# Altium footprint library LV1.PcbLib: 45 footprints (part 1 of 3)
Each footprint in its own frame and in the unit in brackets; x right, y up, seen from the top. Pads: shape width x height; smd on the part's side, far side on the other; paste and mask are expansions set on the pad; w line width, h text height; cw(c..) or ccw(c..) is an arc to the next point about the centre after c.
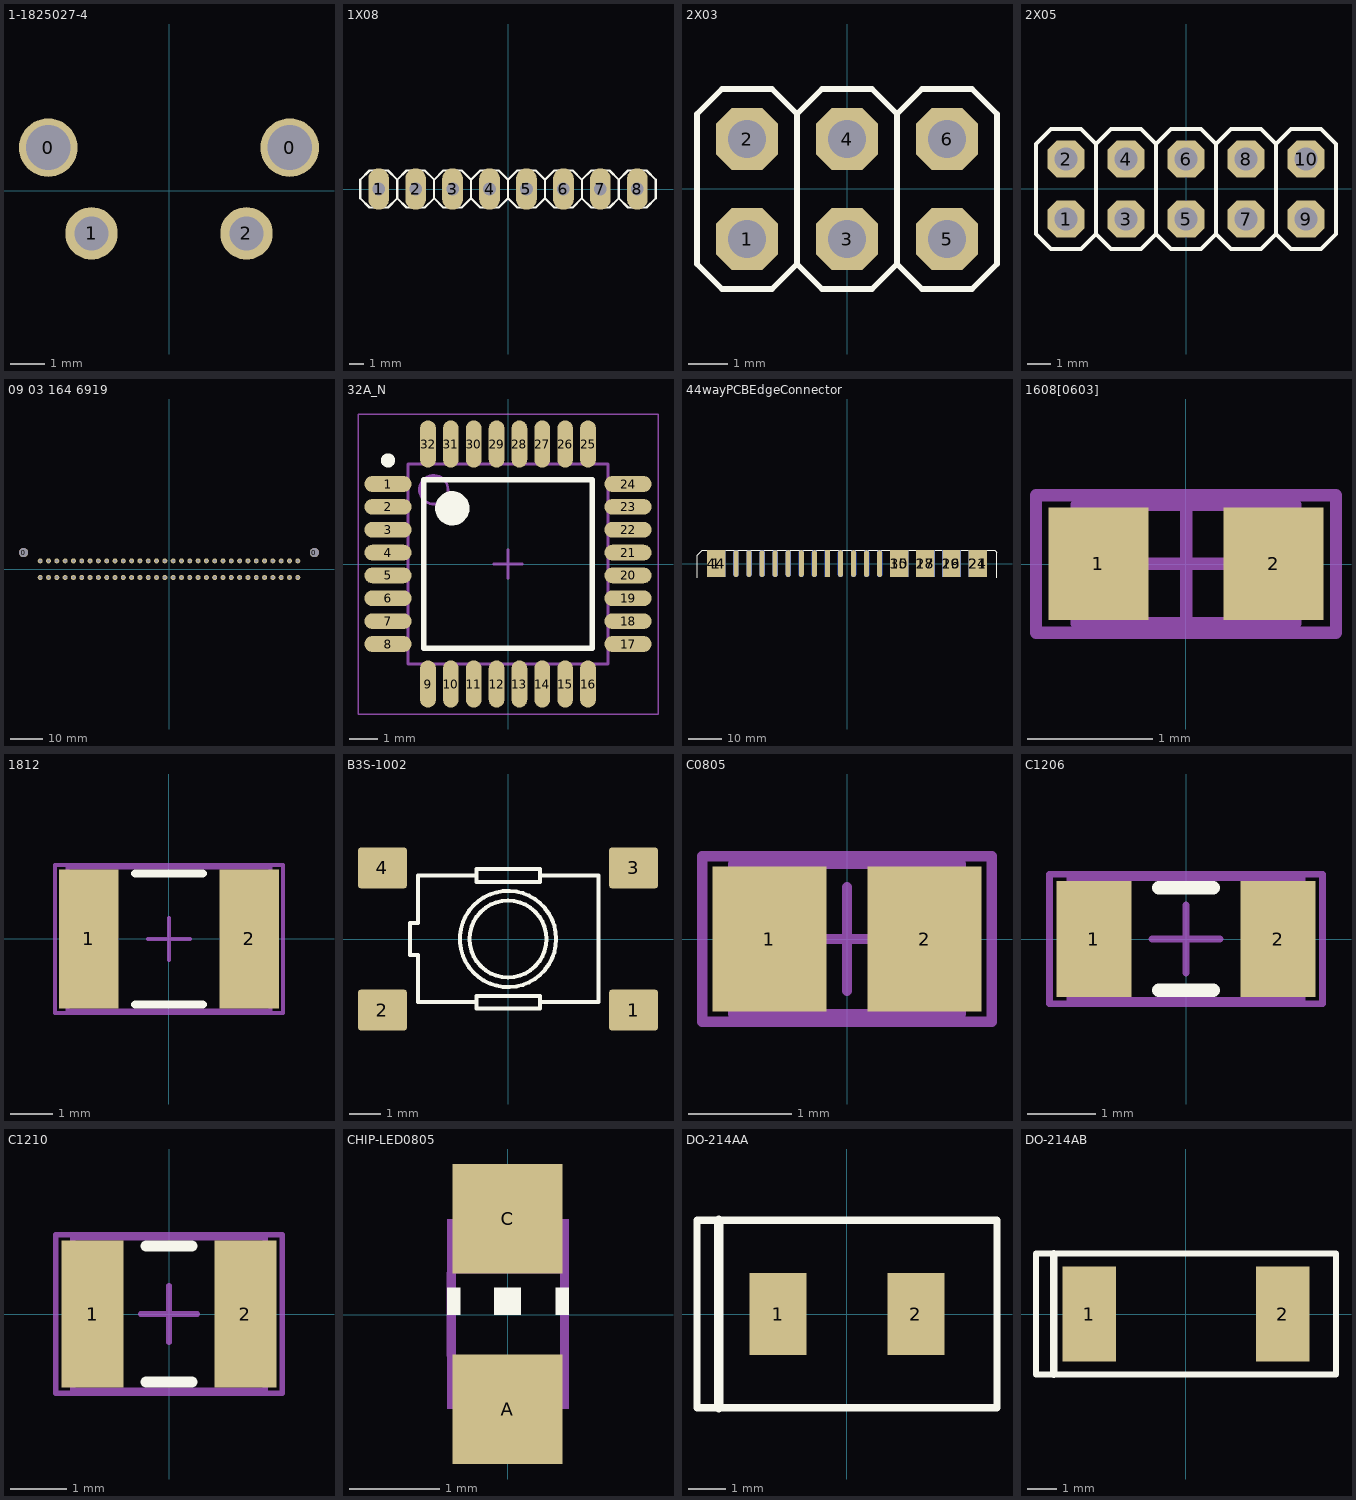
[diagram p0: the footprints below, top view; thin cyan lines are the x and y axes]

## 1-1825027-4 [mm]
pads (4):
  round 1.7 hole 1.3: 0(-3.505,1.245) 0(3.505,1.245)
  round 1.524 hole 0.99: 1(-2.25,-1.245) 2(2.25,-1.245)
3D body "c-1-1825027-4-g1-3d.stp": height 7, standoff -3.52, extent -4.204,-7.366 4.204,2.781

## 1X08 [mil]
height 338.58
pads (8):
  oval 56x112 hole 34: 1(-350,0) 2(-250,0) 3(-150,0) 4(-50,0) 5(50,0) 6(150,0) 7(250,0) 8(350,0)
Top Overlay:
  lines w6: -300,-25 -300,25 ; -300,-25 -325,-50 -375,-50 -400,-25 -400,25 -375,50 -325,50 -300,25 ; -300,-25 -275,-50 -225,-50 -200,-25 ; -300,25 -275,50 -225,50 -200,25 ; -200,-25 -175,-50 -125,-50 -100,-25 ; -200,-25 -200,25 ; -200,25 -175,50 -125,50 -100,25 ; -100,-25 -100,25 ; -100,-25 -75,-50 -25,-50 0,-25 ; -100,25 -75,50 -25,50 0,25 ; 0,-25 0,25 ; 0,-25 25,-50 75,-50 100,-25 ; 0,25 25,50 75,50 100,25 ; 100,-25 125,-50 175,-50 200,-25 ; 100,-25 100,25 ; 100,25 125,50 175,50 200,25 ; 200,-25 200,25 ; 200,-25 225,-50 275,-50 300,-25 ; 200,25 225,50 275,50 300,25 ; 300,-25 300,25 ; 300,-25 325,-50 375,-50 400,-25 400,25 375,50 325,50 300,25
Mechanical 16:
  rectangle: 240,-10 260,10
  rectangle: 140,-10 160,10
  rectangle: 40,-10 60,10
  rectangle: -60,-10 -40,10
  rectangle: -160,-10 -140,10
  rectangle: -260,-10 -240,10
  rectangle: -360,-10 -340,10
  rectangle: 340,-10 360,10

## 2X03 [mil]
height 338.58
pads (6):
  oct 62x62 hole 38: 1(-100,-50) 2(-100,50) 3(0,-50) 4(0,50) 5(100,-50) 6(100,50)
Top Overlay:
  lines w6: -50,-75 -75,-100 -125,-100 -150,-75 -150,75 -125,100 -75,100 -50,75 ; -50,-75 -25,-100 25,-100 50,-75 ; -50,-75 -50,75 ; -50,75 -25,100 25,100 50,75 ; 50,-75 50,75 ; 50,-75 75,-100 125,-100 150,-75 150,75 125,100 75,100 50,75
Mechanical 16:
  rectangle: -110,-60 -90,-40
  rectangle: -110,40 -90,60
  rectangle: -10,40 10,60
  rectangle: -10,-60 10,-40
  rectangle: 90,40 110,60
  rectangle: 90,-60 110,-40

## 2X05 [mil]
height 338.58
pads (10):
  oct 62x62 hole 38: 1(-200,-50) 2(-200,50) 3(-100,-50) 4(-100,50) 5(0,-50) 6(0,50) 7(100,-50) 8(100,50) 9(200,-50) 10(200,50)
Top Overlay:
  lines w6: -150,-75 -150,75 ; -150,-75 -125,-100 -75,-100 -50,-75 ; -150,-75 -175,-100 -225,-100 -250,-75 -250,75 -225,100 -175,100 -150,75 ; -150,75 -125,100 -75,100 -50,75 ; -50,-75 -25,-100 25,-100 50,-75 ; -50,-75 -50,75 ; -50,75 -25,100 25,100 50,75 ; 50,-75 50,75 ; 50,-75 75,-100 125,-100 150,-75 ; 50,-75 50,75 ; 50,75 75,100 125,100 150,75 ; 150,-75 175,-100 225,-100 250,-75 250,75 225,100 175,100 150,75 ; 150,-75 150,75 ; 150,-75 150,75
Mechanical 16:
  rectangle: 190,-60 210,-40
  rectangle: 190,40 210,60
  rectangle: 90,40 110,60
  rectangle: 90,-60 110,-40
  rectangle: -10,-60 10,-40
  rectangle: -10,40 10,60
  rectangle: -110,-60 -90,-40
  rectangle: -110,40 -90,60
  rectangle: -210,40 -190,60
  rectangle: -210,-60 -190,-40

## 09 03 164 6919 [mil]
pads (66):
  round 110.24 hole 110.24: 0(-1750,200) 0(1750,200)
  round 60 hole 39.37: 0(-1550,100) 1(-1450,100) 2(-1350,100) 3(-1250,100) 4(-1150,100) 5(-1050,100) 6(-950,100) 7(-850,100) 8(-750,100) 9(-650,100) 10(-550,100) 11(-450,100) 12(-350,100) 13(-250,100) 14(-150,100) 15(-50,100) 16(50,100) 17(150,100) 18(250,100) 19(350,100) 20(450,100) 21(550,100) 22(650,100) 23(750,100) 24(850,100) 25(950,100) 26(1050,100) 27(1150,100) 28(1250,100) 29(1350,100) 30(1450,100) 31(1550,100) 32(-1550,-100) 33(-1450,-100) 34(-1350,-100) 35(-1250,-100) 36(-1150,-100) 37(-1050,-100) 38(-950,-100) 39(-850,-100) 40(-750,-100) 41(-650,-100) 42(-550,-100) 43(-450,-100) 44(-350,-100) 45(-250,-100) 46(-150,-100) 47(-50,-100) 48(50,-100) 49(150,-100) 50(250,-100) 51(350,-100) 52(450,-100) 53(550,-100) 54(650,-100) 55(750,-100) 56(850,-100) 57(950,-100) 58(1050,-100) 59(1150,-100) 60(1250,-100) 61(1350,-100) 62(1450,-100) 63(1550,-100)
3D body "09031102020300_100072334MOD000B.STP": height 368.11, standoff -118.11, extent -1850,-100 1850.79,609.45

## 32A_N [mm] "Thin QFP, 32-Leads, Body 7x7mm, Pitch 0.8mm, IPC Medium Density"
height 1.2
pads (32):
  oval 1.65x0.55 smd: 1(-4.2,2.8) 2(-4.2,2) 3(-4.2,1.2) 4(-4.2,0.4) 5(-4.2,-0.4) 6(-4.2,-1.2) 7(-4.2,-2) 8(-4.2,-2.8) 17(4.2,-2.8) 18(4.2,-2) 19(4.2,-1.2) 20(4.2,-0.4) 21(4.2,0.4) 22(4.2,1.2) 23(4.2,2) 24(4.2,2.8)
  oval 0.55x1.65 smd: 9(-2.8,-4.2) 10(-2,-4.2) 11(-1.2,-4.2) 12(-0.4,-4.2) 13(0.4,-4.2) 14(1.2,-4.2) 15(2,-4.2) 16(2.8,-4.2) 25(2.8,4.2) 26(2,4.2) 27(1.2,4.2) 28(0.4,4.2) 29(-0.4,4.2) 30(-1.2,4.2) 31(-2,4.2) 32(-2.8,4.2)
Top Overlay:
  circle w0.25: c-4.2,3.625 r0.125
  circle w0.6: c-1.95,1.95 r0.3
  lines w0.2: -2.95,-2.95 -2.95,2.95 2.95,2.95 2.95,-2.95 -2.95,-2.95
Mechanical 13:
  circle w0.1: c-2.6,2.6 r0.5
  lines w0.1: -3.5,-3.5 -3.5,3.5 3.5,3.5 3.5,-3.5 -3.5,-3.5
Mechanical 15:
  lines w0.05: -5.25,-5.25 -5.25,5.25 5.25,5.25 5.25,-5.25 -5.25,-5.25
  lines w0.1: -0.5,0 0.5,0 ; 0,-0.5 0,0.5
3D body: height 1.2, standoff 0, extent -3.5,-3.5 3.5,3.5

## 44wayPCBEdgeConnector [mil]
pads (34):
  rect 218x320 smd: 1(-1560,0) 15(623,0) 17(936,0) 19(1247,0) 21(1560,0)
  oval 60x320 smd: 3(-1326,0) 4(-1170,0) 5(-1014,0) 6(-858,0) 7(-702,0) 8(-546,0) 9(-390,0) 11(-78,0) 12(78,0) 13(234,0) 14(390,0)
  rect 60x320 smd: 10(-234,0)
  rect 218x320 smd far side: 24(1560,0) 26(1247,0) 28(936,0) 30(623,0) 44(-1560,0)
  oval 60x320 smd far side: 31(390,0) 32(234,0) 33(78,0) 34(-78,0) 36(-390,0) 37(-546,0) 38(-702,0) 39(-858,0) 40(-1014,0) 41(-1170,0) 42(-1326,0)
  rect 60x320 smd far side: 35(-234,0)
Top Overlay:
  lines w10: -1791.34,-170 -1791.34,100 -1731.34,160 1765,160 1791.34,133.66 1791.34,100 1791.34,-170

## 1608[0603] [mm] "Chip Capacitor, Body 1.6x0.8mm, IPC High Density"
height 1.3
pads (2):
  rect 0.8x0.9 smd: 1(-0.7,0) 2(0.7,0)
Mechanical 13:
  lines w0.1: -0.875,-0.475 -0.875,0.475 0.875,0.475 0.875,-0.475 -0.875,-0.475
Mechanical 15:
  lines w0.1: -0.475,0 0.475,0 ; 0,-0.475 0,0.475 ; -1.2,-0.55 -1.2,0.55 1.2,0.55 1.2,-0.55 -1.2,-0.55
3D body: height 1.3, standoff 0, extent -0.875,-0.475 0.875,0.475

## 1812 [mm] "Chip Capacitor, Body 4.5x3.2mm, IPC High Density"
height 1.4
pads (2):
  rect 1.4x3.3 smd: 1(-1.9,0) 2(1.9,0)
Top Overlay:
  lines w0.2: -0.8,-1.55 0.8,-1.55 ; -0.8,1.55 0.8,1.55
Mechanical 13:
  lines w0.1: -2.4,-1.7 2.4,-1.7 2.4,1.7 -2.4,1.7 -2.4,-1.7
Mechanical 15:
  lines w0.1: -0.5,0 0.5,0 ; 0,-0.5 0,0.5 ; -2.7,-1.75 2.7,-1.75 2.7,1.75 -2.7,1.75 -2.7,-1.75
3D body: height 1.4, standoff 0, extent -2.4,-1.7 2.4,1.7

## B3S-1002 [mm]
height 7.12
pads (4):
  rrect15% 1.55x1.3 smd: 1(3.975,-2.25) 2(-3.975,-2.25) 3(3.975,2.25) 4(-3.975,2.25)
Top Overlay:
  circle w0.127: c0,0 r1.219
  circle w0.127: c0,0 r1.524
  lines w0.127: -1,-2 -2.85,-2 -2.85,-0.5 -3.1,-0.5 -3.1,0.508 -2.85,0.508 -2.85,2.007 -1,2.007 ; -1,-2 -1,-2.2 1.016,-2.2 1.016,-2 ; -1,-2 -1,-1.8 1.016,-1.8 1.016,-2 ; -1,2.007 -1,1.803 1.016,1.803 1.016,2.007 ; -1,2.007 -1,2.21 1.016,2.21 1.016,2.007 ; 1.016,-2 2.87,-2 2.87,2.007 1.016,2.007

## C0805 [mm] "Chip Capacitor, Body 2.0x1.3mm, IPC High Density"
height 1.4
pads (2):
  rect 1.1x1.4 smd: 1(-0.75,0) 2(0.75,0)
Mechanical 13:
  lines w0.1: -1.1,-0.725 1.1,-0.725 1.1,0.725 -1.1,0.725 -1.1,-0.725
Mechanical 15:
  lines w0.1: -0.5,0 0.5,0 ; 0,-0.5 0,0.5 ; -1.4,-0.8 1.4,-0.8 1.4,0.8 -1.4,0.8 -1.4,-0.8
3D body: height 1.4, standoff 0, extent -1.1,-0.725 1.1,0.725

## C1206 [mm] "Chip Capacitor, Body 3.2x1.6mm, IPC High Density"
height 1.3
pads (2):
  rect 1.1x1.7 smd: 1(-1.35,0) 2(1.35,0)
Top Overlay:
  lines w0.2: -0.4,-0.75 0.4,-0.75 ; -0.4,0.75 0.4,0.75
Mechanical 13:
  lines w0.1: -1.7,-0.9 1.7,-0.9 1.7,0.9 -1.7,0.9 -1.7,-0.9
Mechanical 15:
  lines w0.1: -0.5,0 0.5,0 ; 0,-0.5 0,0.5 ; -2,-0.95 2,-0.95 2,0.95 -2,0.95 -2,-0.95
3D body: height 1.3, standoff 0, extent -1.7,-0.9 1.7,0.9

## C1210 [mm] "Chip Capacitor, Body 3.2x2.5mm, IPC High Density"
height 1.3
pads (2):
  rect 1.1x2.6 smd: 1(-1.35,0) 2(1.35,0)
Top Overlay:
  lines w0.2: -0.4,-1.2 0.4,-1.2 ; -0.4,1.2 0.4,1.2
Mechanical 13:
  lines w0.1: -1.7,-1.35 -1.7,1.35 1.7,1.35 1.7,-1.35 -1.7,-1.35
Mechanical 15:
  lines w0.1: -0.5,0 0.5,0 ; 0,-0.5 0,0.5 ; -2,-1.4 -2,1.4 2,1.4 2,-1.4 -2,-1.4
3D body: height 1.3, standoff 0, extent -1.7,-1.35 1.7,1.35

## CHIP-LED0805 [mil]
height 280.31
pads (2):
  rect 48x48 smd: A(0,-41.34) C(0,42)
Top Overlay:
  rectangle: -26.57,0 -20.67,12
  rectangle: 21,0 27,12
  rectangle: -5.91,0 6,12
Mechanical 16:
  rectangle: -26.57,18 27,42
  rectangle: -26.57,-41.34 27,-17.72
  lines w4: -24.61,-17.72 -24.61,18 ; 25,-18.7 25,18

## DO-214AA [mm]
height 7.12
pads (2):
  rect 1.52x2.18 smd: 1(-1.84,0) 2(1.84,0)
Top Overlay:
  lines w0.2: -4.01,-2.5 -4.01,0 -4.01,2.5 4.01,2.5 4.01,-2.5 -4.01,-2.5
  lines w0.254: -3.429,-2.5 -3.429,2.5

## DO-214AB [mm]
height 7.12
pads (2):
  rect 1.8x3.2 smd: 1(-3.25,0) 2(3.25,0)
Top Overlay:
  lines w0.2: -5.05,-2.032 5.05,-2.032 5.05,2.032 -5.05,2.032 -5.05,0 -5.05,-2.032
  lines w0.254: -4.445,-2.032 -4.445,2.032